# Altium integrated library LCD Driver.IntLib: 1 symbol
Pins are listed as number, name and electrical type; pins without a type are passive.

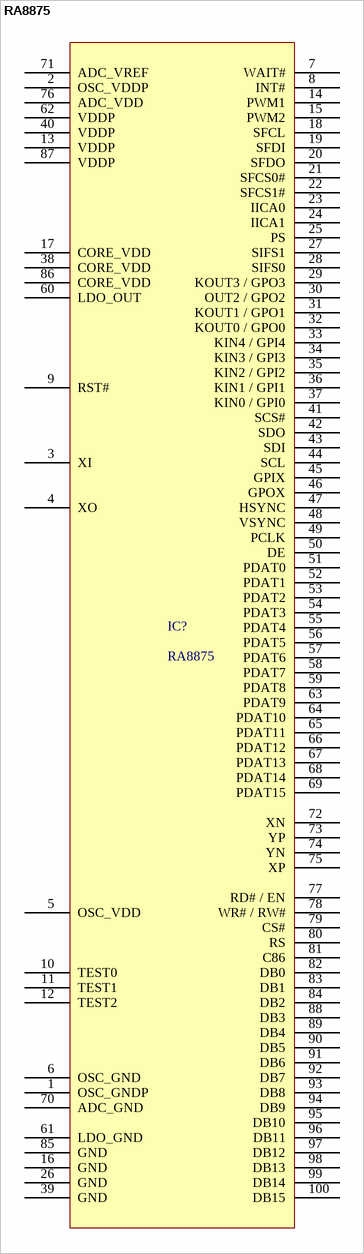
[diagram p0: symbol RA8875]

## RA8875
designator IC?
Part Number: RA8875
footprint RAIO LQFP-100
pins: 1 OSC_GNDP, 2 OSC_VDDP, 3 XI, 4 XO, 5 OSC_VDD, 6 OSC_GND, 7 WAIT#, 8 INT#, 9 RST#, 10 TEST0, 11 TEST1, 12 TEST2, 13 VDDP, 14 PWM1, 15 PWM2, 16 GND, 17 CORE_VDD, 18 SFCL, 19 SFDI, 20 SFDO, 21 SFCS0#, 22 SFCS1#, 23 IICA0, 24 IICA1, 25 PS, 26 GND, 27 SIFS1, 28 SIFS0, 29 KOUT3 / GPO3, 30 OUT2 / GPO2, 31 KOUT1 / GPO1, 32 KOUT0 / GPO0, 33 KIN4 / GPI4, 34 KIN3 / GPI3, 35 KIN2 / GPI2, 36 KIN1 / GPI1, 37 KIN0 / GPI0, 38 CORE_VDD, 39 GND, 40 VDDP, 41 SCS#, 42 SDO, 43 SDI, 44 SCL, 45 GPIX, 46 GPOX, 47 HSYNC, 48 VSYNC, 49 PCLK, 50 DE, 51 PDAT0, 52 PDAT1, 53 PDAT2, 54 PDAT3, 55 PDAT4, 56 PDAT5, 57 PDAT6, 58 PDAT7, 59 PDAT8, 60 LDO_OUT, 61 LDO_GND, 62 VDDP, 63 PDAT9, 64 PDAT10, 65 PDAT11, 66 PDAT12, 67 PDAT13, 68 PDAT14, 69 PDAT15, 70 ADC_GND, 71 ADC_VREF, 72 XN, 73 YP, 74 YN, 75 XP, 76 ADC_VDD, 77 RD# / EN, 78 WR# / RW#, 79 CS#, 80 RS, 81 C86, 82 DB0, 83 DB1, 84 DB2, 85 GND, 86 CORE_VDD, 87 VDDP, 88 DB3, 89 DB4, 90 DB5, 91 DB6, 92 DB7, 93 DB8, 94 DB9, 95 DB10, 96 DB11, 97 DB12, 98 DB13, 99 DB14, 100 DB15